# Altium footprint library BatteryHolder.PcbLib: 1 footprints
Each footprint in its own frame and in the unit in brackets; x right, y up, seen from the top. Pads: shape width x height; smd on the part's side, far side on the other; paste and mask are expansions set on the pad; w line width, h text height; cw(c..) or ccw(c..) is an arc to the next point about the centre after c.
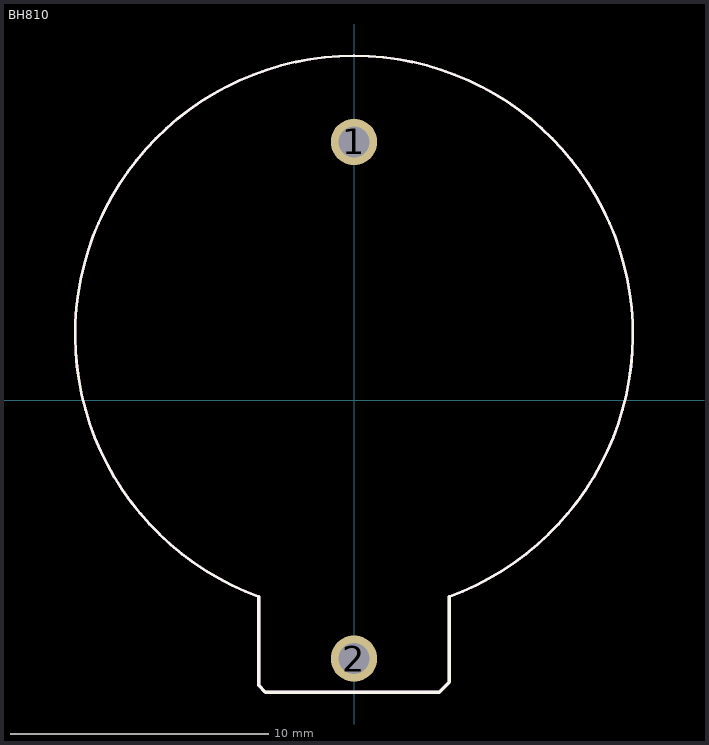
[diagram p0: the footprint, top view; thin cyan lines are the x and y axes]

## BH810 [mm] "Battery Holder"
height 6.6
pads (2):
  round 1.8 hole 1.2: 1(0,10) 2(0,-10)
Top Overlay:
  lines w0.1: -3.692,-7.604 cw(c0,2.54) 3.692,-7.604
  lines w0.127: -3.692,-7.604 -3.692,-11.04 -3.429,-11.303 3.302,-11.303 3.692,-10.913 3.692,-7.604
Mechanical 15:
  lines w0.1: -3.692,-7.604 cw(c0,2.54) 3.692,-7.604
  lines w0.127: -3.692,-7.604 -3.692,-11.04 -3.429,-11.303 3.302,-11.303 3.692,-10.913 3.692,-7.604
3D body "User Library-CR2032_HOR_HOLD.STEP": height 8.5, standoff -4, extent -11,-11.214 11,13.286